# Altium footprint library EVENTCTRL.PcbLib: 42 footprints (part 2 of 3)
Each footprint in its own frame and in the unit in brackets; x right, y up, seen from the top. Pads: shape width x height; smd on the part's side, far side on the other; paste and mask are expansions set on the pad; w line width, h text height; cw(c..) or ccw(c..) is an arc to the next point about the centre after c.
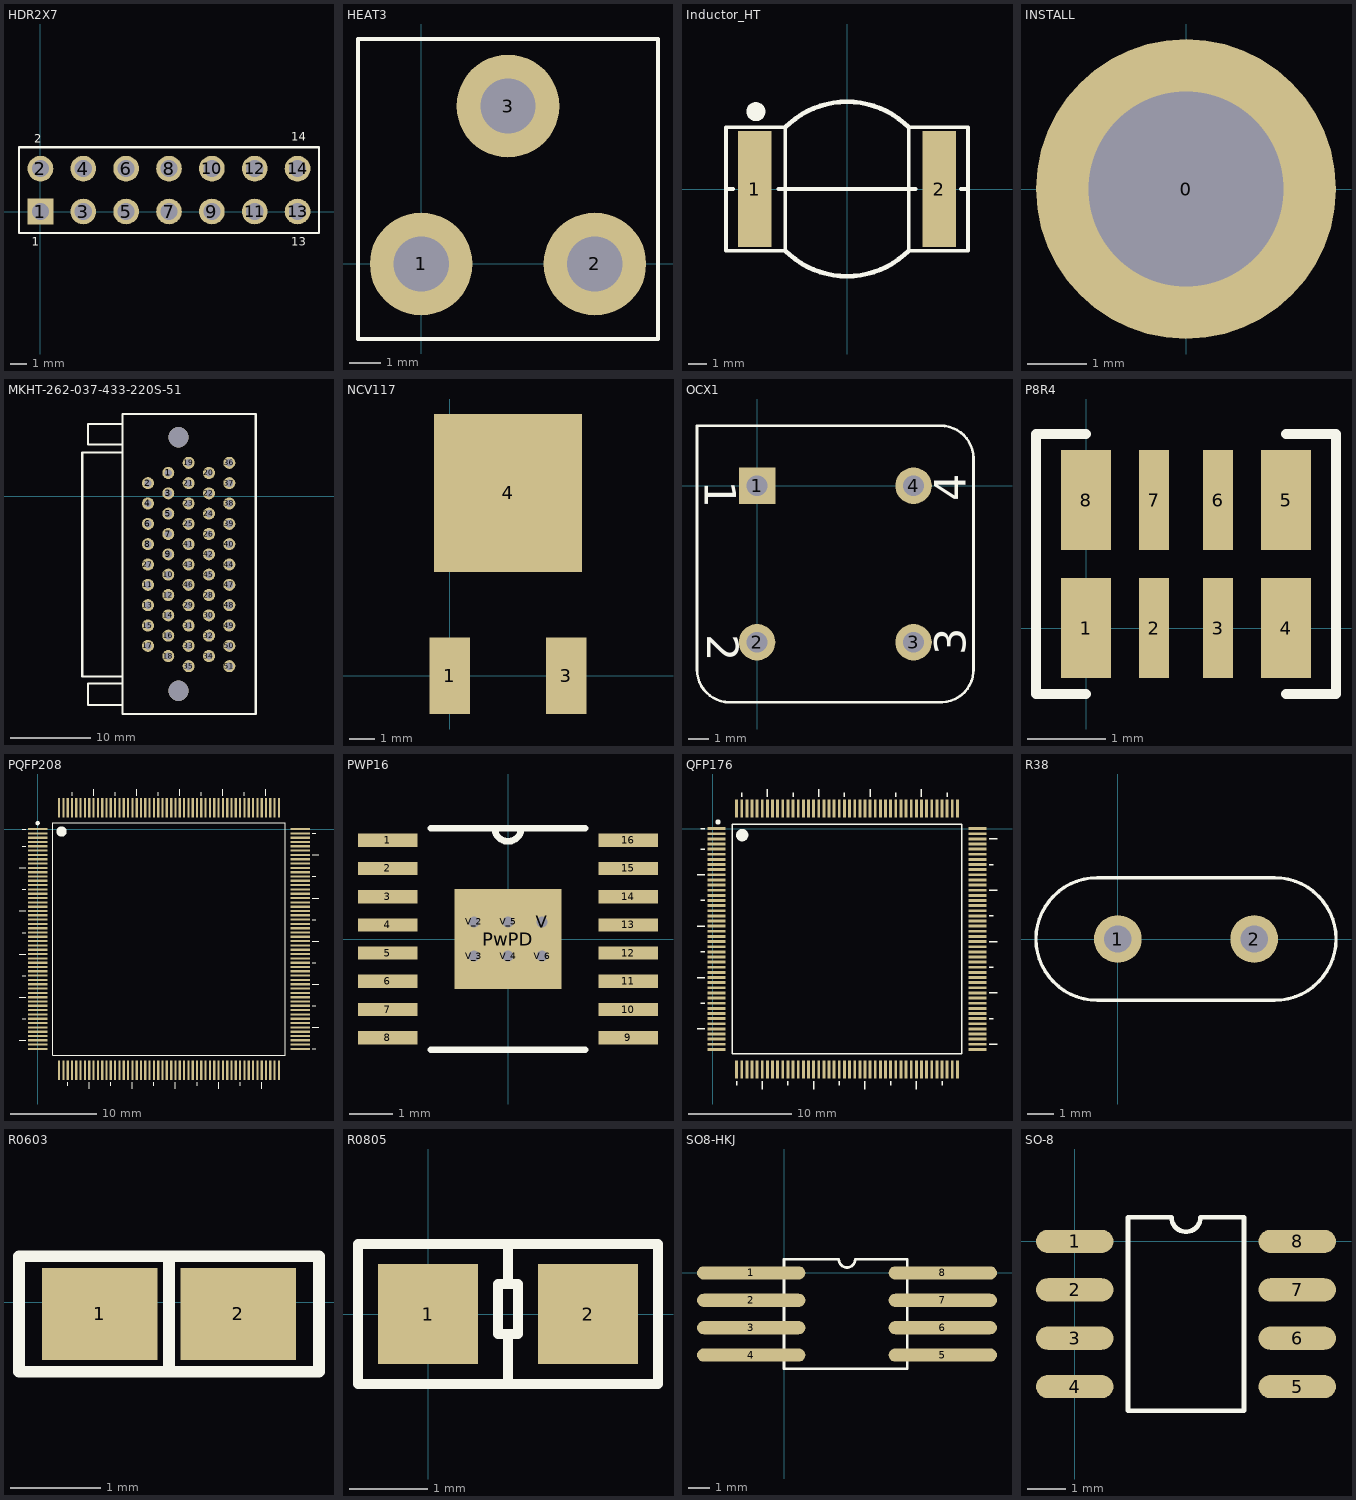
[diagram p1: the footprints below, top view; thin cyan lines are the x and y axes]

## HDR2X7 [mil]
pads (14):
  rect 60x60 hole 40: 1(0,0)
  round 60 hole 40: 2(0,100) 3(100,0) 4(100,100) 5(200,0) 6(200,100) 7(300,0) 8(300,100) 9(400,0) 10(400,100) 11(500,0) 12(500,100) 13(600,0) 14(600,100)
Top Overlay:
  lines w5: -50,-50 650,-50 650,150 -50,150 -50,-50
  text "13" at 585,-80 h20
  text "14" at 585,165 h20
  text "1" at -20,-80 h20
  text "2" at -15,160 h20

## HEAT3 [mil]
pads (3):
  round 130 hole 70: 1(0,0) 2(220,0) 3(110,200)
Top Overlay:
  lines w5: -80,-95 300,-95 300,285 -80,285 -80,-95

## Inductor_HT [mm]
height 4
pads (2):
  rect 1.8x6.2 smd: 1(-4.928,0) 2(4.928,0)
Top Overlay:
  circle w0.508: c-4.877,4.14 r0.254
  lines w0.203: -6.477,0 -6.096,0 ; -3.683,0 3.683,0 ; 6.096,0 6.477,0 ; -6.477,-3.3 -3.302,-3.3 -3.302,3.3 -6.477,3.3 -6.477,-3.3 ; 3.302,-3.3 3.302,3.3 6.477,3.3 6.477,-3.3 3.302,-3.3
  lines w0.254: -3.302,-3.3 ccw(c0,0) 3.302,-3.3 ; -3.302,3.3 cw(c0,0) 3.302,3.3

## INSTALL [mil]
pads (1):
  round 200 hole 130: 0(0,0)

## MKHT-262-037-433-220S-51 [mm]
pads (51):
  round 1.5 hole 0.9: 1(54.991,2.921) 2(52.451,1.651) 3(54.991,0.381) 4(52.451,-0.889) 5(54.991,-2.159) 6(52.451,-3.429) 7(54.991,-4.699) 8(52.451,-5.969) 9(54.991,-7.239) 10(54.991,-9.779) 11(52.451,-11.049) 12(54.991,-12.319) 13(52.451,-13.589) 14(54.991,-14.859) 15(52.451,-16.129) 16(54.991,-17.399) 17(52.451,-18.669) 18(54.991,-19.939) 19(57.531,4.191) 20(60.071,2.921) 21(57.531,1.651) 22(60.071,0.381) 23(57.531,-0.889) 24(60.071,-2.159) 25(57.531,-3.429) 26(60.071,-4.699) 27(52.451,-8.509) 28(60.071,-12.319) 29(57.531,-13.589) 30(60.071,-14.859) 31(57.531,-16.129) 32(60.071,-17.399) 33(57.531,-18.669) 34(60.071,-19.939) 35(57.531,-21.209) 36(62.611,4.191) 37(62.611,1.651) 38(62.611,-0.889) 39(62.611,-3.429) 40(62.611,-5.969) 41(57.531,-5.969) 42(60.071,-7.239) 43(57.531,-8.509) 44(62.611,-8.509) 45(60.071,-9.779) 46(57.531,-11.049) 47(62.611,-11.049) 48(62.611,-13.589) 49(62.611,-16.129) 50(62.611,-18.669) 51(62.611,-21.209)
via 56.261,-24.257 diameter 2.54 hole 2.54
via 56.261,7.366 diameter 2.54 hole 2.54
Top Overlay:
  lines w0.254: 49.278,-26.035 44.958,-26.035 44.958,-23.368 49.278,-23.368 ; 49.278,-22.479 44.248,-22.479 44.248,5.461 49.278,5.461 ; 44.958,6.477 44.958,9.017 49.278,9.017 49.278,6.477 44.958,6.477 ; 49.278,-27.178 65.913,-27.178 65.913,10.287 49.278,10.287 49.278,-27.178

## NCV117 [mm]
pads (3):
  rect 1.6x3 smd: 1(0,0) 3(4.572,0)
  rect 5.8x6.2 smd: 4(2.287,7.18)

## OCX1 [mil]
pads (4):
  rect 70x70 hole 40: 1(0,0)
  round 70 hole 40: 2(0,-300) 3(300,-300) 4(300,0)
Top Overlay:
  lines w5: -115.05,-352.5 ccw(c-52.5,-352.5) -52.5,-415.05 ; -115,-350 -115,115 351.26,115 cw(c352.13,52.13) 415,53 415,-355 ; -55,-415 355,-415 ccw(c352.5,-352.5) 415,-350
  text "4" at 400,-30 h60
  text "3" at 400,-325 h60
  text "2" at -95,-285 h60
  text "1" at -100,10 h60

## P8R4 [mil]
pads (8):
  rect 25x50 smd: 1(0,0) 4(100,0) 5(100,64) 8(0,64)
  rect 15x50 smd: 2(34,0) 3(66,0) 6(66,64) 7(34,64)
Top Overlay:
  lines w5: 0,-33 -25,-33 -25,97 0,97 ; 100,-33 125,-33 125,97 100,97

## PQFP208 [mil] "SQFP, 208-Leads, Body 33.0x33.0mm (max), Pitch 0.50mm, IPC Medium Density"
pads (208):
  rect 90x10 smd: 1(0,0) 2(0,-19.68) 3(0,-39.37) 4(0,-59.06) 5(0,-78.74) 6(0,-98.43) 7(0,-118.11) 8(0,-137.8) 9(0,-157.48) 10(0,-177.16) 11(0,-196.85) 12(0,-216.54) 13(0,-236.22) 14(0,-255.91) 15(0,-275.59) 16(0,-295.28) 17(0,-314.96) 18(0,-334.65) 19(0,-354.33) 20(0,-374.02) 21(0,-393.7) 22(0,-413.39) 23(0,-433.07) 24(0,-452.76) 25(0,-472.44) 26(0,-492.13) 27(0,-511.81) 28(0,-531.5) 29(0,-551.18) 30(0,-570.87) 31(0,-590.55) 32(0,-610.24) 33(0,-629.92) 34(0,-649.61) 35(0,-669.29) 36(0,-688.98) 37(0,-708.66) 38(0,-728.35) 39(0,-748.03) 40(0,-767.72) 41(0,-787.4) 42(0,-807.09) 43(0,-826.77) 44(0,-846.46) 45(0,-866.14) 46(0,-885.83) 47(0,-905.51) 48(0,-925.2) 49(0,-944.88) 50(0,-964.57) 51(0,-984.25) 52(0,-1003.94) 105(1200,-1003.94) 106(1200,-984.25) 107(1200,-964.57) 108(1200,-944.88) 109(1200,-925.2) 110(1200,-905.51) 111(1200,-885.83) 112(1200,-866.14) 113(1200,-846.46) 114(1200,-826.77) 115(1200,-807.09) 116(1200,-787.4) 117(1200,-767.72) 118(1200,-748.03) 119(1200,-728.35) 120(1200,-708.66) 121(1200,-688.98) 122(1200,-669.29) 123(1200,-649.61) 124(1200,-629.92) 125(1200,-610.24) 126(1200,-590.55) 127(1200,-570.87) 128(1200,-551.18) 129(1200,-531.5) 130(1200,-511.81) 131(1200,-492.13) 132(1200,-472.44) 133(1200,-452.76) 134(1200,-433.07) 135(1200,-413.39) 136(1200,-393.7) 137(1200,-374.02) 138(1200,-354.33) 139(1200,-334.65) 140(1200,-314.96) 141(1200,-295.28) 142(1200,-275.59) 143(1200,-255.91) 144(1200,-236.22) 145(1200,-216.53) 146(1200,-196.85) 147(1200,-177.17) 148(1200,-157.48) 149(1200,-137.8) 150(1200,-118.11) 151(1200,-98.43) 152(1200,-78.74) 153(1200,-59.06) 154(1200,-39.37) 155(1200,-19.68) 156(1200,0)
  rect 10x90 smd: 53(98.03,-1101.97) 54(117.72,-1101.97) 55(137.4,-1101.97) 56(157.09,-1101.97) 57(176.77,-1101.97) 58(196.46,-1101.97) 59(216.14,-1101.97) 60(235.83,-1101.97) 61(255.51,-1101.97) 62(275.2,-1101.97) 63(294.88,-1101.97) 64(314.57,-1101.97) 65(334.25,-1101.97) 66(353.94,-1101.97) 67(373.62,-1101.97) 68(393.31,-1101.97) 69(412.99,-1101.97) 70(432.68,-1101.97) 71(452.36,-1101.97) 72(472.05,-1101.97) 73(491.73,-1101.97) 74(511.42,-1101.97) 75(531.1,-1101.97) 76(550.79,-1101.97) 77(570.47,-1101.97) 78(590.16,-1101.97) 79(609.84,-1101.97) 80(629.53,-1101.97) 81(649.21,-1101.97) 82(668.9,-1101.97) 83(688.58,-1101.97) 84(708.27,-1101.97) 85(727.95,-1101.97) 86(747.64,-1101.97) 87(767.32,-1101.97) 88(787.01,-1101.97) 89(806.69,-1101.97) 90(826.38,-1101.97) 91(846.06,-1101.97) 92(865.75,-1101.97) 93(885.43,-1101.97) 94(905.12,-1101.97) 95(924.8,-1101.97) 96(944.49,-1101.97) 97(964.17,-1101.97) 98(983.86,-1101.97) 99(1003.54,-1101.97) 100(1023.23,-1101.97) 101(1042.91,-1101.97) 102(1062.6,-1101.97) 103(1082.28,-1101.97) 104(1101.97,-1101.97) 157(1101.97,98.03) 158(1082.28,98.03) 159(1062.6,98.03) 160(1042.91,98.03) 161(1023.23,98.03) 162(1003.54,98.03) 163(983.86,98.03) 164(964.17,98.03) 165(944.49,98.03) 166(924.8,98.03) 167(905.12,98.03) 168(885.43,98.03) 169(865.75,98.03) 170(846.06,98.03) 171(826.38,98.03) 172(806.69,98.03) 173(787.01,98.03) 174(767.32,98.03) 175(747.64,98.03) 176(727.95,98.03) 177(708.27,98.03) 178(688.58,98.03) 179(668.9,98.03) 180(649.21,98.03) 181(629.53,98.03) 182(609.84,98.03) 183(590.16,98.03) 184(570.47,98.03) 185(550.79,98.03) 186(531.1,98.03) 187(511.42,98.03) 188(491.73,98.03) 189(472.05,98.03) 190(452.36,98.03) 191(432.68,98.03) 192(412.99,98.03) 193(393.31,98.03) 194(373.62,98.03) 195(353.94,98.03) 196(334.25,98.03) 197(314.57,98.03) 198(294.88,98.03) 199(275.2,98.03) 200(255.51,98.03) 201(235.83,98.03) 202(216.14,98.03) 203(196.46,98.03) 204(176.77,98.03) 205(157.09,98.03) 206(137.4,98.03) 207(117.72,98.03) 208(98.03,98.03)
Top Overlay:
  circle w23.62: c109.37,-11.34 r11.81
  circle w9.84: c0,27.15 r4.92
  lines w5: -85,-964.57 -55,-964.57 ; -85,-767.72 -55,-767.72 ; -85,-570.87 -55,-570.87 ; -85,-374.02 -55,-374.02 ; -85,-177.16 -55,-177.16 ; -70,-866.14 -55,-866.14 ; -70,-669.29 -55,-669.29 ; -70,-472.44 -55,-472.44 ; -70,-275.59 -55,-275.59 ; -70,-78.74 -55,-78.74 ; -70,0 -55,0 ; 137.4,-1171.97 137.4,-1156.97 ; 157.09,153.03 157.09,168.03 ; 235.83,-1186.97 235.83,-1156.97 ; 255.51,153.03 255.51,183.02 ; 334.25,-1171.97 334.25,-1156.97 ; 353.94,153.03 353.94,168.03 ; 432.68,-1186.97 432.68,-1156.97 ; 452.36,153.03 452.36,183.02 ; 531.1,-1171.97 531.1,-1156.97 ; 550.79,153.03 550.79,168.03 ; 629.53,-1186.97 629.53,-1156.97 ; 649.21,153.03 649.21,183.02 ; 727.95,-1171.97 727.95,-1156.97 ; 747.64,153.03 747.64,168.03 ; 826.38,-1186.97 826.38,-1156.97 ; 846.06,153.03 846.06,183.02 ; 924.8,-1171.97 924.8,-1156.97 ; 944.49,153.03 944.49,168.03 ; 1023.23,-1186.97 1023.23,-1156.97 ; 1042.91,153.03 1042.91,183.02 ; 1255,-1003.94 1270,-1003.94 ; 1255,-905.51 1285,-905.51 ; 1255,-807.09 1270,-807.09 ; 1255,-708.66 1285,-708.66 ; 1255,-610.24 1270,-610.24 ; 1255,-511.81 1285,-511.81 ; 1255,-413.39 1270,-413.39 ; 1255,-314.96 1285,-314.96 ; 1255,-216.53 1270,-216.53 ; 1255,-118.11 1285,-118.11 ; 1255,-19.68 1270,-19.68 ; 70,-1031.97 1130,-1031.97 1130,28.03 70,28.03 70,-1031.97

## PWP16 [mil]
height 47
pads (23):
  rect 54x12 smd: 1(-109,89.57) 2(-109,63.98) 3(-109,38.39) 4(-109,12.8) 5(-109,-12.8) 6(-109,-38.39) 7(-109,-63.98) 8(-109,-89.57) 9(109,-89.57) 10(109,-63.98) 11(109,-38.39) 12(109,-12.8) 13(109,12.8) 14(109,38.39) 15(109,63.98) 16(109,89.57)
  rect 96.85x90.94 smd paste-47.93 mask-47.93: PwPD(0,0)
  round 20 / inner round 60 / far side round 20 hole 10: V(31,15.5) V_2(-31,15.5) V_3(-31,-15.5) V_4(0,-15.5) V_5(0,15.5) V_6(31,-15.5)
Top Overlay:
  lines w6: -69.86,-100.5 69.86,-100.5 ; -69.86,100.5 69.86,100.5 ; -12,100.5 ccw(c0,100.5) 12,100.5
Top Paste:
  region: -34.94,42.52 -45.48,42.52 -45.48,19.44 -40.5,19.44 -34.94,25
  region: -40.5,11.56 -45.48,11.56 -45.48,-11.56 -40.5,-11.56 -34.94,-6 -34.94,6
  region: -40.5,-19.44 -45.48,-19.44 -45.48,-42.52 -34.94,-42.52 -34.94,-25
  region: -3.94,42.52 -27.06,42.52 -27.06,25 -21.5,19.44 -9.5,19.44 -3.94,25
  region: -9.5,11.56 -21.5,11.56 -27.06,6 -27.06,-6 -21.5,-11.56 -9.5,-11.56 -3.94,-6 -3.94,6
  region: -9.5,-19.44 -21.5,-19.44 -27.06,-25 -27.06,-42.52 -3.94,-42.52 -3.94,-25
  region: 27.06,42.52 3.94,42.52 3.94,25 9.5,19.44 21.5,19.44 27.06,25
  region: 21.5,11.56 9.5,11.56 3.94,6 3.94,-6 9.5,-11.56 21.5,-11.56 27.06,-6 27.06,6
  region: 21.5,-19.44 9.5,-19.44 3.94,-25 3.94,-42.52 27.06,-42.52 27.06,-25
  region: 45.48,42.52 34.94,42.52 34.94,25 40.5,19.44 45.48,19.44
  region: 45.48,11.56 40.5,11.56 34.94,6 34.94,-6 40.5,-11.56 45.48,-11.56
  region: 45.48,-19.44 40.5,-19.44 34.94,-25 34.94,-42.52 45.48,-42.52
Top Solder:
  region: -50.93,23.37 -50.93,47.97 50.93,47.97 50.93,23.37
  region: -50.93,-7.63 -50.93,7.63 50.93,7.63 50.93,-7.63
  region: -50.93,-47.97 -50.93,-23.37 50.93,-23.37 50.93,-47.97
  region: -50.93,-47.97 -50.93,47.97 -38.87,47.97 -38.87,-47.97
  region: -7.87,-47.97 -7.87,47.97 -23.13,47.97 -23.13,-47.97
  region: 23.13,-47.97 23.13,47.97 7.87,47.97 7.87,-47.97
  region: 38.87,-47.97 38.87,47.97 50.93,47.97 50.93,-47.97

## QFP176 [mil] "TSQFP, 176-Leads, Body 33.0x33.0mm (max), Pitch 0.50mm, IPC Medium Density"
pads (176):
  rect 70x10.98 smd: 1(15,0) 2(15,-19.68) 3(15,-39.37) 4(15,-59.06) 5(15,-78.74) 6(15,-98.43) 7(15,-118.11) 8(15,-137.8) 9(15,-157.48) 10(15,-177.17) 11(15,-196.85) 12(15,-216.54) 13(15,-236.22) 14(15,-255.91) 15(15,-275.59) 16(15,-295.28) 17(15,-314.96) 18(15,-334.65) 19(15,-354.33) 20(15,-374.02) 21(15,-393.7) 22(15,-413.39) 23(15,-433.07) 24(15,-452.76) 25(15,-472.44) 26(15,-492.13) 27(15,-511.81) 28(15,-531.5) 29(15,-551.18) 30(15,-570.87) 31(15,-590.55) 32(15,-610.24) 33(15,-629.92) 34(15,-649.61) 35(15,-669.29) 36(15,-688.98) 37(15,-708.66) 38(15,-728.35) 39(15,-748.03) 40(15,-767.72) 41(15,-787.4) 42(15,-807.09) 43(15,-826.77) 44(15,-846.46) 89(1015,-846.46) 90(1015,-826.77) 91(1015,-807.09) 92(1015,-787.4) 93(1015,-767.72) 94(1015,-748.03) 95(1015,-728.35) 96(1015,-708.66) 97(1015,-688.98) 98(1015,-669.29) 99(1015,-649.61) 100(1015,-629.92) 101(1015,-610.24) 102(1015,-590.55) 103(1015,-570.87) 104(1015,-551.18) 105(1015,-531.5) 106(1015,-511.81) 107(1015,-492.13) 108(1015,-472.44) 109(1015,-452.76) 110(1015,-433.07) 111(1015,-413.39) 112(1015,-393.7) 113(1015,-374.02) 114(1015,-354.33) 115(1015,-334.65) 116(1015,-314.96) 117(1015,-295.28) 118(1015,-275.59) 119(1015,-255.91) 120(1015,-236.22) 121(1015,-216.54) 122(1015,-196.85) 123(1015,-177.17) 124(1015,-157.48) 125(1015,-137.8) 126(1015,-118.11) 127(1015,-98.43) 128(1015,-78.74) 129(1015,-59.06) 130(1015,-39.37) 131(1015,-19.68) 132(1015,0)
  rect 10.98x70 smd: 45(91.77,-923.23) 46(111.46,-923.23) 47(131.14,-923.23) 48(150.83,-923.23) 49(170.51,-923.23) 50(190.2,-923.23) 51(209.88,-923.23) 52(229.57,-923.23) 53(249.25,-923.23) 54(268.94,-923.23) 55(288.62,-923.23) 56(308.31,-923.23) 57(327.99,-923.23) 58(347.68,-923.23) 59(367.36,-923.23) 60(387.05,-923.23) 61(406.73,-923.23) 62(426.42,-923.23) 63(446.1,-923.23) 64(465.79,-923.23) 65(485.47,-923.23) 66(505.16,-923.23) 67(524.84,-923.23) 68(544.53,-923.23) 69(564.21,-923.23) 70(583.9,-923.23) 71(603.58,-923.23) 72(623.27,-923.23) 73(642.95,-923.23) 74(662.64,-923.23) 75(682.32,-923.23) 76(702.01,-923.23) 77(721.69,-923.23) 78(741.38,-923.23) 79(761.06,-923.23) 80(780.75,-923.23) 81(800.43,-923.23) 82(820.12,-923.23) 83(839.8,-923.23) 84(859.49,-923.23) 85(879.17,-923.23) 86(898.86,-923.23) 87(918.54,-923.23) 88(938.23,-923.23) 133(938.23,76.77) 134(918.54,76.77) 135(898.86,76.77) 136(879.17,76.77) 137(859.49,76.77) 138(839.8,76.77) 139(820.12,76.77) 140(800.43,76.77) 141(780.75,76.77) 142(761.06,76.77) 143(741.38,76.77) 144(721.69,76.77) 145(702.01,76.77) 146(682.32,76.77) 147(662.64,76.77) 148(642.95,76.77) 149(623.27,76.77) 150(603.58,76.77) 151(583.9,76.77) 152(564.21,76.77) 153(544.53,76.77) 154(524.84,76.77) 155(505.16,76.77) 156(485.47,76.77) 157(465.79,76.77) 158(446.1,76.77) 159(426.42,76.77) 160(406.73,76.77) 161(387.05,76.77) 162(367.36,76.77) 163(347.68,76.77) 164(327.99,76.77) 165(308.31,76.77) 166(288.62,76.77) 167(268.94,76.77) 168(249.25,76.77) 169(229.57,76.77) 170(209.88,76.77) 171(190.2,76.77) 172(170.51,76.77) 173(150.83,76.77) 174(131.14,76.77) 175(111.46,76.77) 176(91.77,76.77)
Top Overlay:
  circle w9.84: c20.08,25 r4.92
  circle w23.62: c113.19,-25 r11.81
  lines w5: -60,-767.72 -30,-767.72 ; -60,-570.87 -30,-570.87 ; -60,-374.02 -30,-374.02 ; -60,-177.16 -30,-177.16 ; -45,-669.29 -30,-669.29 ; -45,-472.44 -30,-472.44 ; -45,-275.59 -30,-275.59 ; -45,-78.74 -30,-78.74 ; -45,0 -30,0 ; 91.77,-983.23 91.77,-968.23 ; 111.46,121.77 111.46,136.77 ; 190.2,-998.23 190.2,-968.23 ; 209.88,121.77 209.88,151.77 ; 288.62,-983.23 288.62,-968.23 ; 308.31,121.77 308.31,136.77 ; 387.05,-998.23 387.05,-968.23 ; 406.73,121.77 406.73,151.77 ; 485.47,-983.23 485.47,-968.23 ; 505.16,121.77 505.16,136.77 ; 583.9,-998.23 583.9,-968.23 ; 603.58,121.77 603.58,151.77 ; 682.32,-983.23 682.32,-968.23 ; 702.01,121.77 702.01,136.77 ; 780.75,-998.23 780.75,-968.23 ; 800.43,121.77 800.43,151.77 ; 879.17,-983.23 879.17,-968.23 ; 898.86,121.77 898.86,136.77 ; 1060,-826.77 1090,-826.77 ; 1060,-728.35 1075,-728.35 ; 1060,-629.92 1090,-629.92 ; 1060,-531.5 1075,-531.5 ; 1060,-433.07 1090,-433.07 ; 1060,-334.65 1075,-334.65 ; 1060,-236.22 1090,-236.22 ; 1060,-137.79 1075,-137.79 ; 1060,-39.37 1090,-39.37 ; 75,-863.23 75,16.77 955,16.77 955,-863.23 75,-863.23

## R38 [mil]
pads (2):
  round 70 hole 40: 1(0,0) 2(200,0)
Top Overlay:
  lines w5: -30,-90 cw(c-30,0) -30,90 230,90 cw(c230,0) 230,-90 -30,-90

## R0603 [mil]
pads (2):
  rect 50x40 smd: 1(160,-5) 2(220,-5)
Top Overlay:
  lines w5: 190,-30 190,-5 190,20 ; 125,-30 255,-30 255,20 125,20 125,-30

## R0805 [mil]
pads (2):
  rect 50x50 smd: 1(0,0) 2(80,0)
Top Overlay:
  lines w5: 40,-35 40,-10 ; 40,15 40,35 ; -35,-35 115,-35 115,35 -35,35 -35,-35 ; 35,-10 35,15 45,15 45,-10 35,-10

## SO8-HKJ [mil]
pads (8):
  oval 198.11x24 smd: 1(-60,0) 2(-60,-50) 3(-60,-100) 4(-60,-150) 5(290,-150) 6(290,-100) 7(290,-50) 8(290,0)
Top Overlay:
  lines w5: 0,-175 0,25 100,25 ccw(c115,25) 130,25 225,25 225,-175 0,-175

## SO-8 [mil]
pads (8):
  oval 80x24 smd: 1(0,0) 2(0,-50) 3(0,-100) 4(0,-150) 5(230,-150) 6(230,-100) 7(230,-50) 8(230,0)
Top Overlay:
  lines w5: 55,-175 55,25 100,25 ccw(c115,25) 130,25 175,25 175,-175 55,-175